# EAGLE library part 505406-1860 (library molex)
CONN RCPT VERT 18POS 1.50MM PCB tested: NO
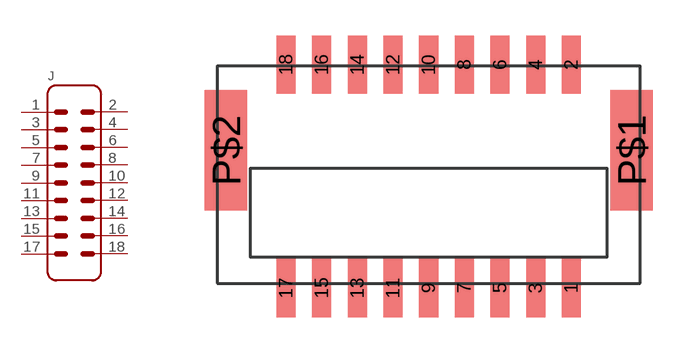
[diagram p7: symbol with the pads of 505406-1860; footprint 505406-1860]

Designator prefix J

## 505406-1860  [505406-1860]
1  1
2  2
3  3
4  4
5  5
6  6
7  7
8  8
9  9
10  10
11  11
12  12
13  13
14  14
15  15
16  16
17  17
18  18

## Footprint 505406-1860 (pad centres in mm)
smd 0.8 x 2.45: 1 6,-5.8; 2 6,3.6; 3 4.5,-5.8; 4 4.5,3.6; 5 3,-5.8; 6 3,3.6; 7 1.5,-5.8; 8 1.5,3.6; 9 0,-5.8; 10 0,3.6; 11 -1.5,-5.8; 12 -1.5,3.6; 13 -3,-5.8; 14 -3,3.6; 15 -4.5,-5.8; 16 -4.5,3.6; 17 -6,-5.8; 18 -6,3.6
smd 1.8 x 5.05: P$1 8.53,0; P$2 -8.53,0